# Altium footprint library WE WR-HDMI 685119134923.PcbLib: 1 footprints
Each footprint in its own frame and in the unit in brackets; x right, y up, seen from the top. Pads: shape width x height; smd on the part's side, far side on the other; paste and mask are expansions set on the pad; w line width, h text height; cw(c..) or ccw(c..) is an arc to the next point about the centre after c.
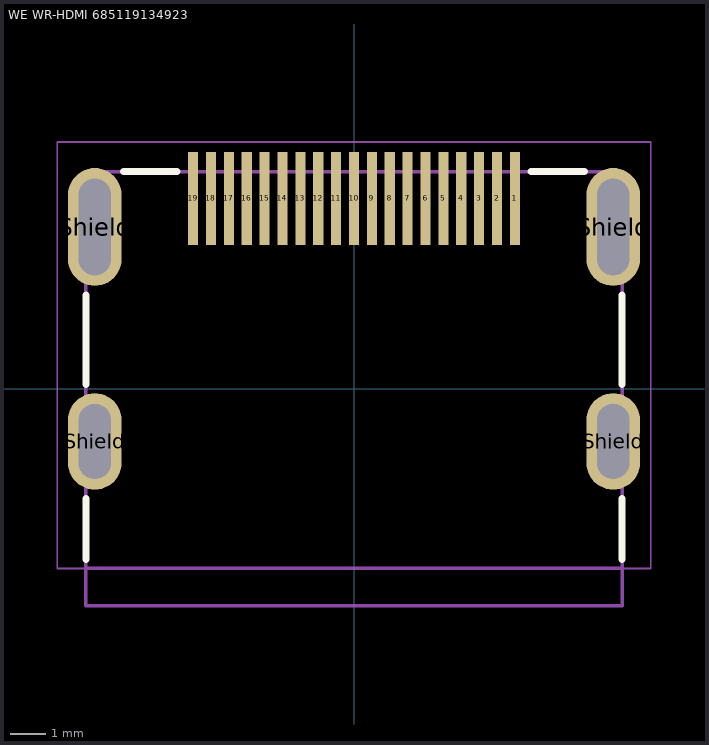
[diagram p0: the footprint, top view; thin cyan lines are the x and y axes]

## WE WR-HDMI 685119134923 [mm] "HDMI SMT Horizontal"
height 6.13
pads (23):
  rect 0.28x2.6 smd: 1(4.5,5.325) 2(4,5.325) 3(3.5,5.325) 4(3,5.325) 5(2.5,5.325) 6(2,5.325) 7(1.5,5.325) 8(1,5.325) 9(0.5,5.325) 10(0,5.325) 11(-0.5,5.325) 12(-1,5.325) 13(-1.5,5.325) 14(-2,5.325) 15(-2.5,5.325) 16(-3,5.325) 17(-3.5,5.325) 18(-4,5.325) 19(-4.5,5.325)
  oval 1.5x2.7 hole 0.9 slot 2.1 at 90 deg: Shield(-7.25,-1.475) Shield(7.25,-1.475)
  oval 1.5x3.3 hole 0.9 slot 2.7 at 90 deg: Shield(-7.25,4.525) Shield(7.25,4.525)
Top Overlay:
  lines w0.2: -7.5,-4.775 -7.5,-3.075 ; -7.5,0.125 -7.5,2.625 ; -6.45,6.075 -4.95,6.075 ; 4.95,6.075 6.45,6.075 ; 7.5,-4.775 7.5,-3.075 ; 7.5,0.125 7.5,2.625
Top Assembly:
  lines w0.1: -7.5,-5.025 7.5,-5.025 ; 7.5,6.075 7.5,-6.075 -7.5,-6.075 -7.5,6.075 7.5,6.075
Top Courtyard:
  lines w0.05: -8.3,-5.025 -8.3,6.9 8.3,6.9 8.3,-5.025 -8.3,-5.025
  text "PCB Edge" at -1.634,-5.832 h1
Top Designator:
  text ".Designator" at -7.498,-0.5 h1.5
3D body "685119134923.stp": height 6.17, standoff -2.2, extent -7.55,-6.075 7.45,6.075